# Altium footprint library DB.PcbLib: 10 footprints
Each footprint in its own frame and in the unit in brackets; x right, y up, seen from the top. Pads: shape width x height; smd on the part's side, far side on the other; paste and mask are expansions set on the pad; w line width, h text height; cw(c..) or ccw(c..) is an arc to the next point about the centre after c.
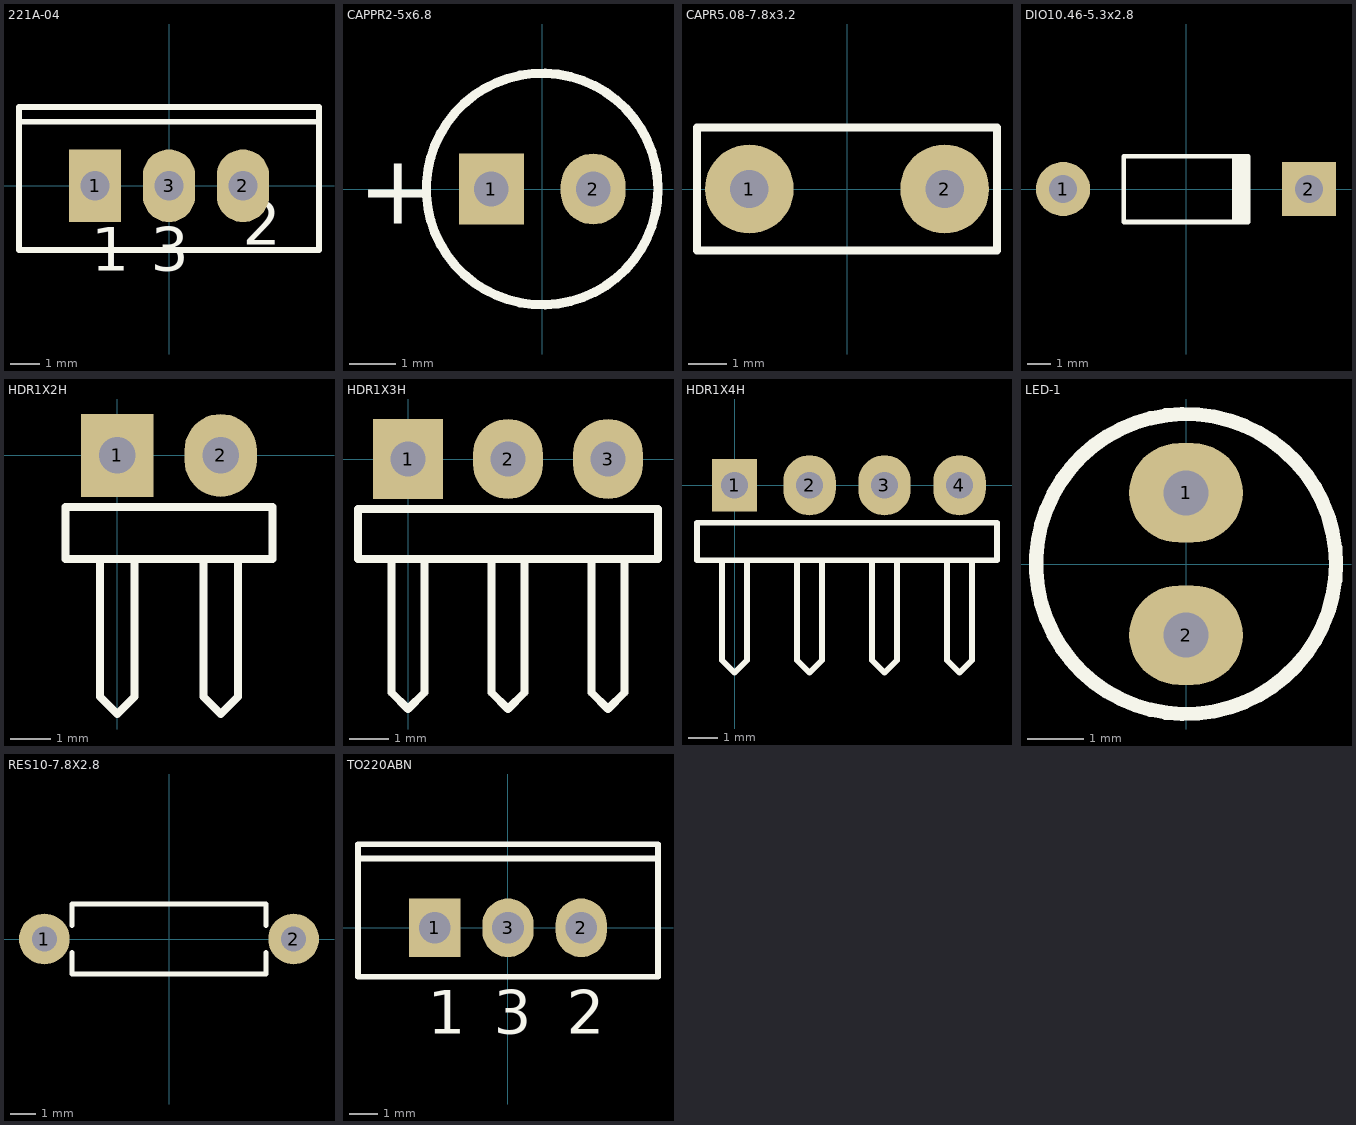
[diagram p0: the footprints below, top view; thin cyan lines are the x and y axes]

## 221A-04 [mm]
pads (3):
  rect 1.8x2.5 hole 1: 1(-2.54,0)
  oval 1.8x2.5 hole 1: 2(2.54,0) 3(0,0)
Top Overlay:
  lines w0.2: -5.15,2.2 5.15,2.2 ; -5.15,-2.2 5.15,-2.2 5.15,2.7 -5.15,2.7 -5.15,-2.2
  text "1" at -2.667,-2.921 h1.5
  text "2" at 2.54,-2.032 h1.5
  text "3" at -0.635,-2.921 h1.5

## CAPPR2-5x6.8 [mm]
pads (2):
  rect 1.402x1.529 hole 0.75: 1(-1.098,0)
  oval 1.402x1.529 hole 0.75: 2(1.102,0)
Top Overlay:
  circle w0.2: c0,0 r2.5
  text "+" at -3.975,-0.75 h1.5

## CAPR5.08-7.8x3.2 [mm]
pads (2):
  round 2.31 hole 1: 1(-2.54,0) 2(2.54,0)
Top Overlay:
  lines w0.2: -3.9,-1.6 -3.9,1.6 3.9,1.6 3.9,-1.6 -3.9,-1.6

## DIO10.46-5.3x2.8 [mm]
pads (2):
  round 2.305 hole 1.2: 1(-5.23,0)
  rect 2.305x2.305 hole 1.2: 2(5.23,0)
Top Overlay:
  rectangle: 1.952,-1.395 2.752,1.405
  lines w0.2: 2.65,-1.4 -2.65,-1.4 -2.65,1.4 2.65,1.4

## HDR1X2H [mil] "Connector; Header; 2 Position; Right Angle"
pads (2):
  rect 70x80 hole 35.43: 1(0,0)
  oval 70x80 hole 35.43: 2(100,0)
Top Overlay:
  lines w7.87: -16.67,-100 -16.67,-233.33 0,-250 16.67,-233.33 16.67,-100 ; 83.33,-100 83.33,-233.33 100,-250 116.67,-233.33 116.67,-100 ; -50,-100 -50,-50 150,-50 150,-100 -50,-100

## HDR1X3H [mil] "Connector; Header; 3 Position; Right Angle"
pads (3):
  rect 70x80 hole 35.43: 1(0,0)
  oval 70x80 hole 35.43: 2(100,0) 3(200,0)
Top Overlay:
  lines w7.87: -16.67,-100 -16.67,-233.33 0,-250 16.67,-233.33 16.67,-100 ; 83.33,-100 83.33,-233.33 100,-250 116.67,-233.33 116.67,-100 ; 183.33,-100 183.33,-233.33 200,-250 216.67,-233.33 216.67,-100 ; -50,-100 -50,-50 250,-50 250,-100 -50,-100

## HDR1X4H [mil] "Connector; Header; 4 Position; Right Angle"
pads (4):
  rect 60x70 hole 35.43: 1(0,0)
  oval 70x80 hole 35.43: 2(100,0) 3(200,0) 4(300,0)
Top Overlay:
  lines w7.87: -16.67,-100 -16.67,-233.33 0,-250 16.67,-233.33 16.67,-100 ; 83.33,-100 83.33,-233.33 100,-250 116.67,-233.33 116.67,-100 ; 183.33,-100 183.33,-233.33 200,-250 216.67,-233.33 216.67,-100 ; 283.33,-100 283.33,-233.33 300,-250 316.67,-233.33 316.67,-100 ; -50,-100 -50,-50 350,-50 350,-100 -50,-100

## LED-1 [mil] "Typical RED GaAs LED; 2 Leads"
pads (2):
  oval 80x70 hole 31.5: 1(0,50) 2(0,-50)
Top Overlay:
  circle w10: c0,0 r105.48

## RES10-7.8X2.8 [mil]
pads (2):
  round 80 hole 39.37: 1(-196.85,0) 2(196.85,0)
Top Overlay:
  lines w7.87: -153.54,-21.65 -153.54,-55.12 153.54,-55.12 153.54,-21.65 ; -153.54,21.65 -153.54,55.12 153.54,55.12 153.54,21.65

## TO220ABN [mil] "TO, Thru-Hole, Vertical, Heatsink Mounted; 3 In-Line Leads; Pitch 2.54 mm; Pin sequence 1, 3, 2"
height 775.59
pads (3):
  rect 70x80 hole 43.31: 1(-100,0)
  oval 70x80 hole 43.31: 2(100,0) 3(0,0)
Top Overlay:
  lines w7.87: -204.72,94.49 204.72,94.49 ; -204.72,-66.93 204.72,-66.93 204.72,114.17 -204.72,114.17 -204.72,-66.93
  text "3" at -19.68,-144.69 h59.06
  text "2" at 80.32,-144.69 h59.06
  text "1" at -109.84,-144.69 h59.06